# Altium schematic symbol library IC_Microchip_93LC56B-I-SN_eec.SchLib: 1 symbol
Pins are listed as number, name and electrical type; pins without a type are passive.

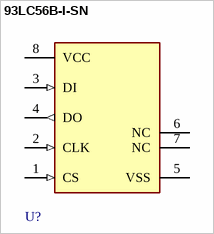
[diagram p0: symbol 93LC56B-I-SN]

## 93LC56B-I-SN
designator U?  (value not drawn)
pins: 1 CS (in), 2 CLK (in), 3 DI (in), 4 DO (out), 5 VSS (power), 6 NC, 7 NC, 8 VCC (power)